# Altium footprint library CS12-F2GA472MYNS.PcbLib: 1 footprints
Each footprint in its own frame and in the unit in brackets; x right, y up, seen from the top. Pads: shape width x height; smd on the part's side, far side on the other; paste and mask are expansions set on the pad; w line width, h text height; cw(c..) or ccw(c..) is an arc to the next point about the centre after c.
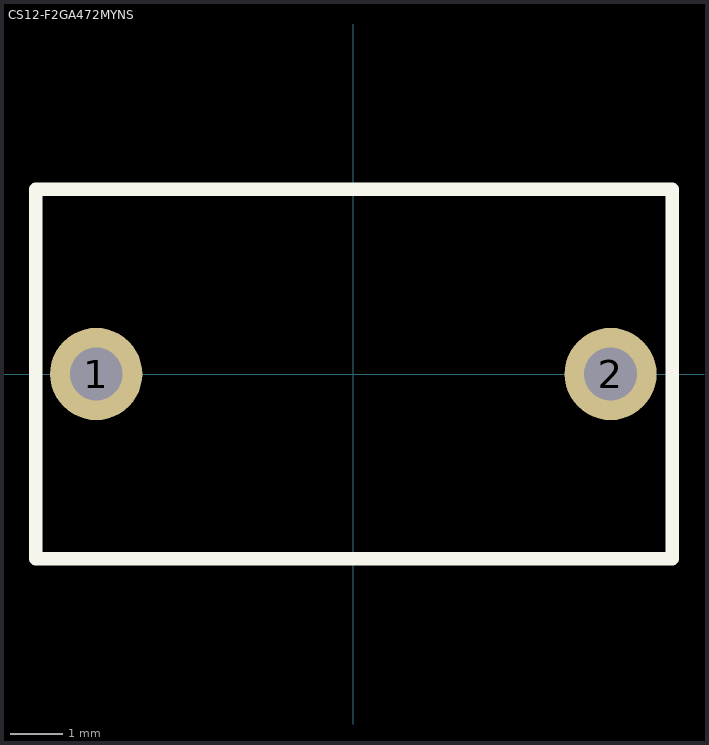
[diagram p0: the footprint, top view; thin cyan lines are the x and y axes]

## CS12-F2GA472MYNS [mm] "7mm Non-polarized Capacitor"
pads (2):
  round 1.75 hole 1: 1(-4.876,0) 2(4.876,0)
Top Overlay:
  lines w0.254: -6.02,-3.5 -6.02,3.5 6.045,3.5 6.045,-3.5 -6.02,-3.5
3D body: height 15.24, standoff 4.76, extent -5.28,-1.993 5.179,2.007
3D body: height 6.77, standoff -2.08, extent -5.589,-0.305 -2.682,0.294
3D body: height 6.77, standoff -2.08, extent 2.661,-0.279 5.568,0.319